# EAGLE library part BMX055 (library ORBiT-IC-Bosch)
Bosch BMX055 Absolute Orientation Sensors The absolute orientation sensor BMX055 is a very small, 9-axis sensor, consisting of a triaxial 12 bit acceleration sensor, a triaxial 16 bit, ±2000°/s gyroscope and a triaxial geomagnetic sensor. The BMX055 allows accurate measurement of angular rate, acceleration and geomagnetic fields in 3 perpendicular axes within one device. Technical data: Bosch BMX055 Absolute Orientation Sensors <https://www.bosch-sensortec.com/bst/products/all_products/bmx055>
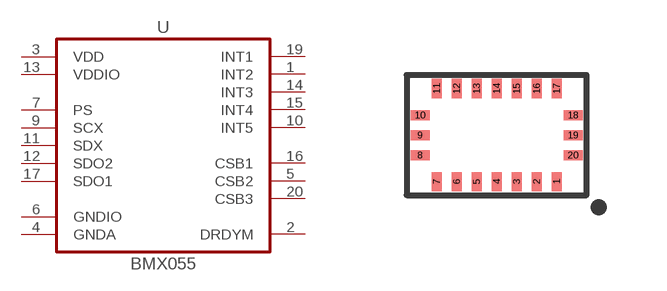
[diagram p1: symbol with the pads of BMX055; footprint BMX055]

Designator prefix U

## BMX055 (MF: Bosch Sensortec; MPN: BMX055; PN_DIGIKEY: 828-1060-1-ND; PN_MOUSER: 262-BMX055)  [BMX055]
1  INT2  out
2  DRDYM  out
3  VDD  sup
4  GNDA  sup
5  CSB2  in
6  GNDIO
7  PS  in
9  SCX  in
10  INT5  out
11  SDX
12  SDO2  out
13  VDDIO  sup
14  INT3
15  INT4
16  CSB1  in
17  SDO1  out
19  INT1  out
20  CSB3  in

## Footprint BMX055 (pad centres in mm)
Bosch BMX055 3.0 x 4.5 x 0.95 mm LGA
smd 0.25 x 0.475: 1 1.5,-1.163; 2 1,-1.163; 3 0.5,-1.163; 4 0,-1.163; 5 -0.5,-1.163; 6 -1,-1.163; 7 -1.5,-1.163; 11 -1.5,1.163; 12 -1,1.163; 13 -0.5,1.163; 14 0,1.163; 15 0.5,1.163; 16 1,1.163; 17 1.5,1.163
smd 0.475 x 0.25: 8 -1.913,-0.5; 9 -1.913,0; 10 -1.913,0.5; 18 1.913,0.5; 19 1.913,0; 20 1.913,-0.5